# EAGLE library part HEADER2MM14P (library Stofer)
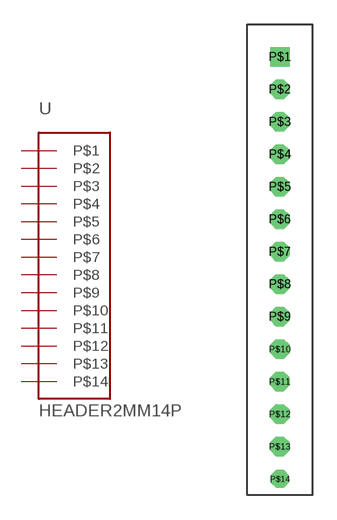
[diagram p18: symbol with the pads of HEADER2MM14P; footprint HEADER2MM14P]

Designator prefix -

## HEADER2MM14P  [HEADER2MM14P]
P$1  P$1  pas
P$2  P$2  pas
P$3  P$3  pas
P$4  P$4  pas
P$5  P$5  pas
P$6  P$6  pas
P$7  P$7  pas
P$8  P$8  pas
P$9  P$9  pas
P$10  P$10  pas
P$11  P$11  pas
P$12  P$12  pas
P$13  P$13  pas
P$14  P$14  pas

## Footprint HEADER2MM14P (pad centres in mm)
drill 0.7 square: P$1 0,12
drill 0.7 octagon: P$2 0,10; P$3 0,8; P$4 0,6; P$5 0,4; P$6 0,2; P$7 0,0; P$8 0,-2; P$9 0,-4; P$10 0,-6; P$11 0,-8; P$12 0,-10; P$13 0,-12
drill 0.6 octagon: P$14 0,-14